# Altium footprint library 100DP6T1B1M6QEH.PcbLib: 1 footprints
Each footprint in its own frame and in the unit in brackets; x right, y up, seen from the top. Pads: shape width x height; smd on the part's side, far side on the other; paste and mask are expansions set on the pad; w line width, h text height; cw(c..) or ccw(c..) is an arc to the next point about the centre after c.
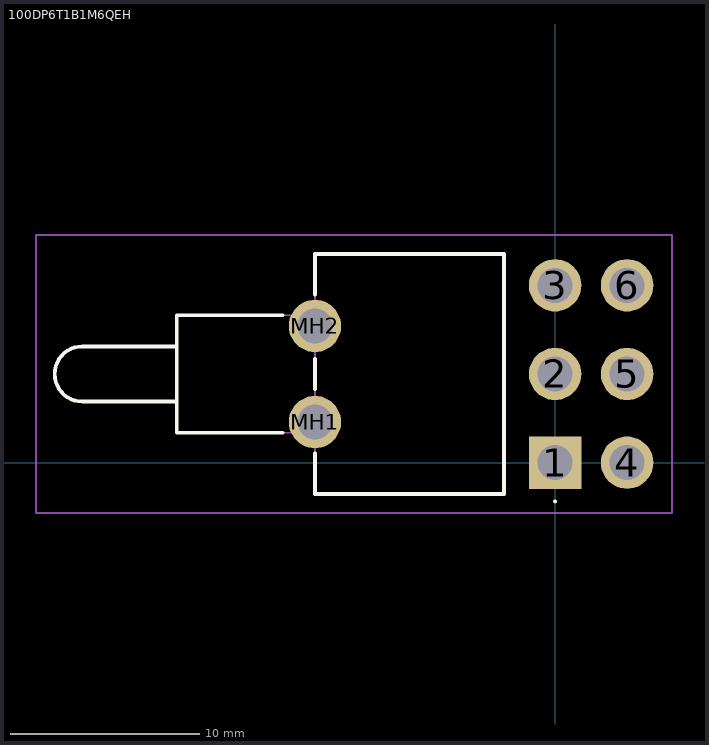
[diagram p0: the footprint, top view; thin cyan lines are the x and y axes]

## 100DP6T1B1M6QEH [mm]
pads (8):
  rect 2.775x2.775 hole 1.85: 1(0,0)
  round 2.775 hole 1.85: 2(0,4.69) 3(0,9.38) 4(3.81,0) 5(3.81,4.69) 6(3.81,9.38) MH1(-12.7,2.15) MH2(-12.7,7.23)
Top Overlay:
  lines w0.1: 0,-2.1 cw(c0,-2.05) 0,-2 ; 0,-2.1 0,-2.1 ; 0,-2.1 ccw(c0,-2.05) 0,-2 ; 0,-2 0,-2
  lines w0.2: -20.01,3.23 -25.01,3.23 cw(c-25.01,4.69) -25.01,6.15 ; -20.01,6.15 -25.01,6.15 ; -14.41,1.58 -20.01,1.58 -20.01,7.8 -14.41,7.8 ; -12.7,0.49 -12.7,-1.66 -2.7,-1.66 -2.7,11.04 -12.7,11.04 -12.7,8.89 ; -12.7,3.89 -12.7,5.49 ; -25.01,6.15 -25.01,6.15
Mechanical 15:
  lines w0.1: -20.01,3.23 -25.01,3.23 cw(c-25.01,4.69) -25.01,6.15 ; -20.01,6.15 -25.01,6.15 ; -12.7,1.58 -20.01,1.58 -20.01,7.8 -12.7,7.8 ; -25.01,6.15 -25.01,6.15 ; -12.7,-1.66 -2.7,-1.66 -2.7,11.04 -12.7,11.04 -12.7,-1.66
Mechanical 20:
  lines w0.1: -27.47,-2.66 6.197,-2.66 6.197,12.04 -27.47,12.04 -27.47,-2.66